# Altium schematic symbol library SCH - OPAMP - TI THS4551 DGK.SCHLIB: 1 symbol
Pins are listed as number, name and electrical type; pins without a type are passive.

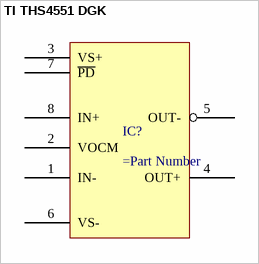
[diagram p0: symbol TI THS4551 DGK]

## TI THS4551 DGK
designator IC?
pins: 1 IN-, 2 VOCM, 3 VS+, 4 OUT+, 5 OUT-, 6 VS-, 7 ~{PD}, 8 IN+